# Altium footprint library Trans_Infineon_IRF7821PBF_eec_IPC_C.PcbLib: 1 footprints
Each footprint in its own frame and in the unit in brackets; x right, y up, seen from the top. Pads: shape width x height; smd on the part's side, far side on the other; paste and mask are expansions set on the pad; w line width, h text height; cw(c..) or ccw(c..) is an arc to the next point about the centre after c.
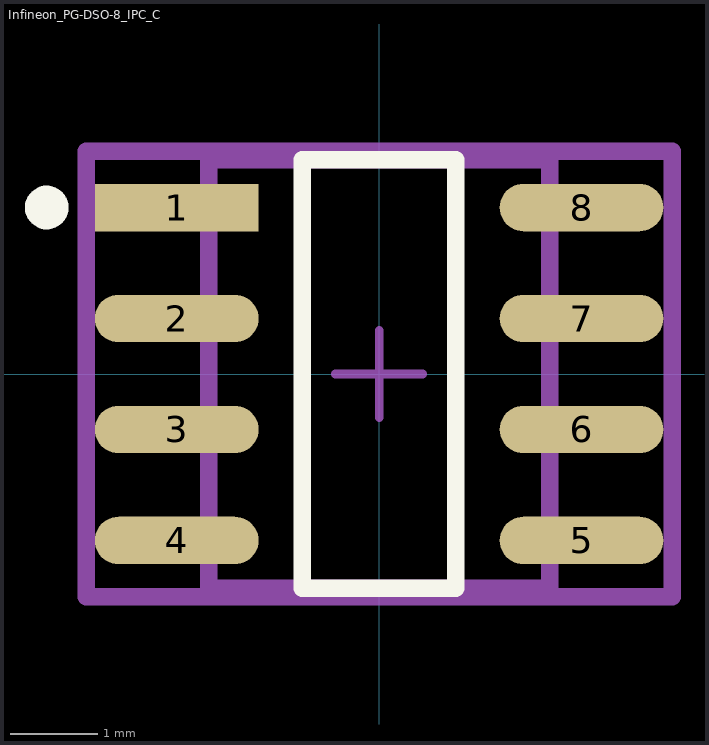
[diagram p0: the footprint, top view; thin cyan lines are the x and y axes]

## Infineon_PG-DSO-8_IPC_C [mil]
pads (8):
  rect 73.78x21.39 smd paste+0 mask+0: 1(-91.18,75)
  rrect100% 73.78x21.39 smd paste+0 mask+0: 2(-91.18,25) 3(-91.18,-25) 4(-91.18,-75) 5(91.18,-75) 6(91.18,-25) 7(91.18,25) 8(91.18,75)
Top Overlay:
  circle w9.84: c-149.73,75 r4.92
  lines w7.87: -34.61,-96.46 34.61,-96.46 34.61,96.46 -34.61,96.46 -34.61,-96.46
Mechanical 10:
  lines w7.87: -132.01,-100.39 132.01,-100.39 132.01,100.39 -132.01,100.39 -132.01,-100.39
  text ".Designator" at 0,7.41 h39.37
Mechanical 12:
  lines w7.87: -76.77,-96.46 76.77,-96.46 76.77,96.46 -76.77,96.46 -76.77,-96.46
Mechanical 15:
  lines w3.94: -19.68,0 19.68,0 ; 0,-19.68 0,19.68
  lines w7.87: -132.01,-100.39 132.01,-100.39 132.01,100.39 -132.01,100.39 -132.01,-100.39
3D body "Trans_Infineon_IRF7821PBF_eec.STEP": height 10, standoff 0, extent -132.01,-100.39 132.01,100.39